# EAGLE library part STM32F303VEY6TR (library circuit_tree)
IC
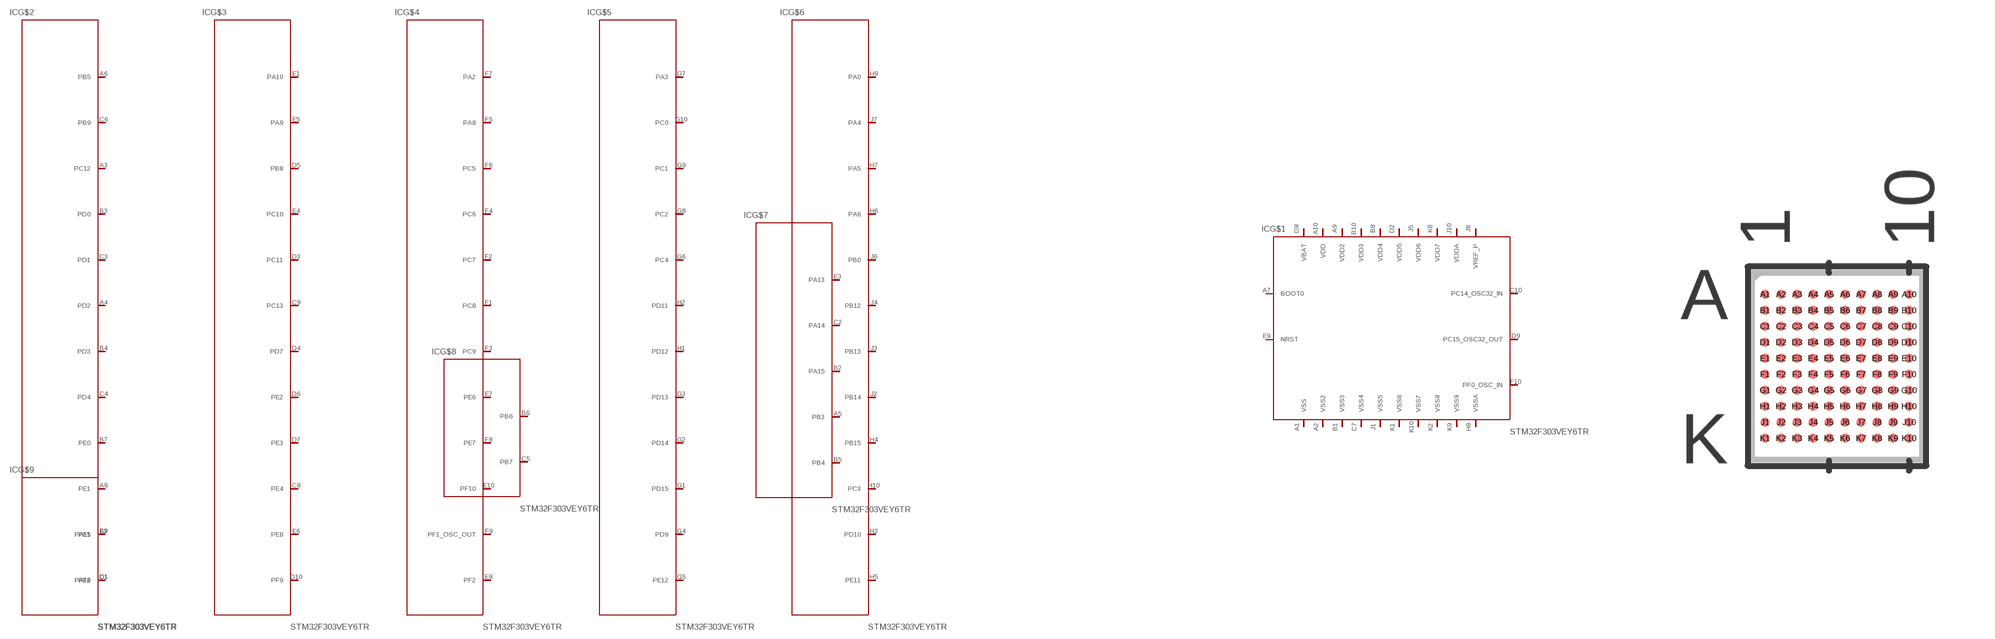
[diagram p3: symbol with the pads of WLCSP100; footprint WLCSP100]

Designator prefix IC; gates G$1=STM32F303VEY6TR G$2=STM32F303VEY6TR2 G$3=STM32F303VEY6TR3 G$4=STM32F303VEY6TR4 G$5=STM32F303VEY6TR5 G$6=STM32F303VEY6TR6 G$7=STM32F303VEY6TR7 G$8=STM32F303VEY6TR8 G$9=STM32F303VEY6TR9

## STM32F303VEY6TR  [WLCSP100]
A1  G$1:VSS  pas
A2  G$1:VSS2  pas
A3  G$2:PC12  pas
A4  G$2:PD2  pas
A5  G$7:PB3  pas
A6  G$2:PB5  pas
A7  G$1:BOOT0  pas
A8  G$2:PE1  pas
A9  G$1:VDD2  pas
A10  G$1:VDD  pas
B1  G$1:VSS3  pas
B2  G$7:PA15  pas
B3  G$2:PD0  pas
B4  G$2:PD3  pas
B5  G$7:PB4  pas
B6  G$8:PB6  pas
B7  G$2:PE0  pas
B8  G$1:VDD4  pas
B9  G$2:PE5  pas
B10  G$1:VDD3  pas
C1  G$2:PF6  pas
C2  G$7:PA14  pas
C3  G$2:PD1  pas
C4  G$2:PD4  pas
C5  G$8:PB7  pas
C6  G$2:PB9  pas
C7  G$1:VSS4  pas
C8  G$3:PE4  pas
C9  G$3:PC13  pas
C10  G$1:PC14_OSC32_IN  pas
D1  G$9:PA12  pas
D2  G$1:VDD5  pas
D3  G$3:PC11  pas
D4  G$3:PD7  pas
D5  G$3:PB8  pas
D6  G$3:PE2  pas
D7  G$3:PE3  pas
D8  G$1:VBAT  pas
D9  G$1:PC15_OSC32_OUT  pas
D10  G$3:PF9  pas
E1  G$3:PA10  pas
E2  G$9:PA11  pas
E3  G$7:PA13  pas
E4  G$3:PC10  pas
E5  G$3:PA9  pas
E6  G$3:PE8  pas
E7  G$4:PE6  pas
E8  G$4:PF2  pas
E9  G$1:NRST  pas
E10  G$4:PF10  pas
F1  G$4:PC8  pas
F2  G$4:PC7  pas
F3  G$4:PC9  pas
F4  G$4:PC6  pas
F5  G$4:PA8  pas
F6  G$4:PC5  pas
F7  G$4:PA2  pas
F8  G$4:PE7  pas
F9  G$4:PF1_OSC_OUT  pas
F10  G$1:PF0_OSC_IN  pas
G1  G$5:PD15  pas
G2  G$5:PD14  pas
G3  G$5:PD13  pas
G4  G$5:PD9  pas
G5  G$5:PE12  pas
G6  G$5:PC4  pas
G7  G$5:PA3  pas
G8  G$5:PC2  pas
G9  G$5:PC1  pas
G10  G$5:PC0  pas
H1  G$5:PD12  pas
H2  G$5:PD11  pas
H3  G$6:PD10  pas
H4  G$6:PB15  pas
H5  G$6:PE11  pas
H6  G$6:PA6  pas
H7  G$6:PA5  pas
H8  G$1:VSSA  pas
H9  G$6:PA0  pas
H10  G$6:PC3  pas
J1  G$1:VSS5  pas
J2  G$6:PB14  pas
J3  G$6:PB13  pas
J4  G$6:PB12  pas
J5  G$1:VDD6  pas
J6  G$6:PB0  pas
J7  G$6:PA4  pas
J8  G$1:VREF_P  pas
J10  G$1:VDDA  pas
K1  G$1:VSS6  pas
K2  G$1:VSS8  pas
K8  G$1:VDD7  pas
K9  G$1:VSS9  pas
K10  G$1:VSS7  pas

## Footprint WLCSP100 (pad centres in mm)
smd 0.229 x 0.229: A1 -1.8,1.8; A2 -1.4,1.8; A3 -1,1.8; A4 -0.6,1.8; A5 -0.2,1.8; A6 0.2,1.8; A7 0.6,1.8; A8 1,1.8; A9 1.4,1.8; A10 1.8,1.8; B1 -1.8,1.4; B2 -1.4,1.4; B3 -1,1.4; B4 -0.6,1.4; B5 -0.2,1.4; B6 0.2,1.4; B7 0.6,1.4; B8 1,1.4; B9 1.4,1.4; B10 1.8,1.4; C1 -1.8,1; C2 -1.4,1; C3 -1,1; C4 -0.6,1; C5 -0.2,1; C6 0.2,1; C7 0.6,1; C8 1,1; C9 1.4,1; C10 1.8,1; D1 -1.8,0.6; D2 -1.4,0.6; D3 -1,0.6; D4 -0.6,0.6; D5 -0.2,0.6; D6 0.2,0.6; D7 0.6,0.6; D8 1,0.6; D9 1.4,0.6; D10 1.8,0.6; E1 -1.8,0.2; E2 -1.4,0.2; E3 -1,0.2; E4 -0.6,0.2; E5 -0.2,0.2; E6 0.2,0.2; E7 0.6,0.2; E8 1,0.2; E9 1.4,0.2; E10 1.8,0.2; F1 -1.8,-0.2; F2 -1.4,-0.2; F3 -1,-0.2; F4 -0.6,-0.2; F5 -0.2,-0.2; F6 0.2,-0.2; F7 0.6,-0.2; F8 1,-0.2; F9 1.4,-0.2; F10 1.8,-0.2; G1 -1.8,-0.6; G2 -1.4,-0.6; G3 -1,-0.6; G4 -0.6,-0.6; G5 -0.2,-0.6; G6 0.2,-0.6; G7 0.6,-0.6; G8 1,-0.6; G9 1.4,-0.6; G10 1.8,-0.6; H1 -1.8,-1; H2 -1.4,-1; H3 -1,-1; H4 -0.6,-1; H5 -0.2,-1; H6 0.2,-1; H7 0.6,-1; H8 1,-1; H9 1.4,-1; H10 1.8,-1; J1 -1.8,-1.4; J2 -1.4,-1.4; J3 -1,-1.4; J4 -0.6,-1.4; J5 -0.2,-1.4; J6 0.2,-1.4; J7 0.6,-1.4; J8 1,-1.4; J9 1.4,-1.4; J10 1.8,-1.4; K1 -1.8,-1.8; K2 -1.4,-1.8; K3 -1,-1.8; K4 -0.6,-1.8; K5 -0.2,-1.8; K6 0.2,-1.8; K7 0.6,-1.8; K8 1,-1.8; K9 1.4,-1.8; K10 1.8,-1.8